# Altium schematic symbol library RES,10k,1%,0.25W,Axial,Thru.Schlib: 1 symbol
Pins are listed as number, name and electrical type; pins without a type are passive.

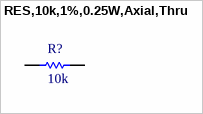
[diagram p0: symbol RES,10k,1%,0.25W,Axial,Thru]

## RES,10k,1%,0.25W,Axial,Thru
designator R?, comment 10k
10 kOhms ±1% 0.25W, 1/4W Through Hole Resistor Axial  Metal Film
pins: 1, 2